# EAGLE library part ST7FLITE05Y0M6 (library ST Microelectronics)
Flash memory, data EEPROM, ADC, timers, SPI
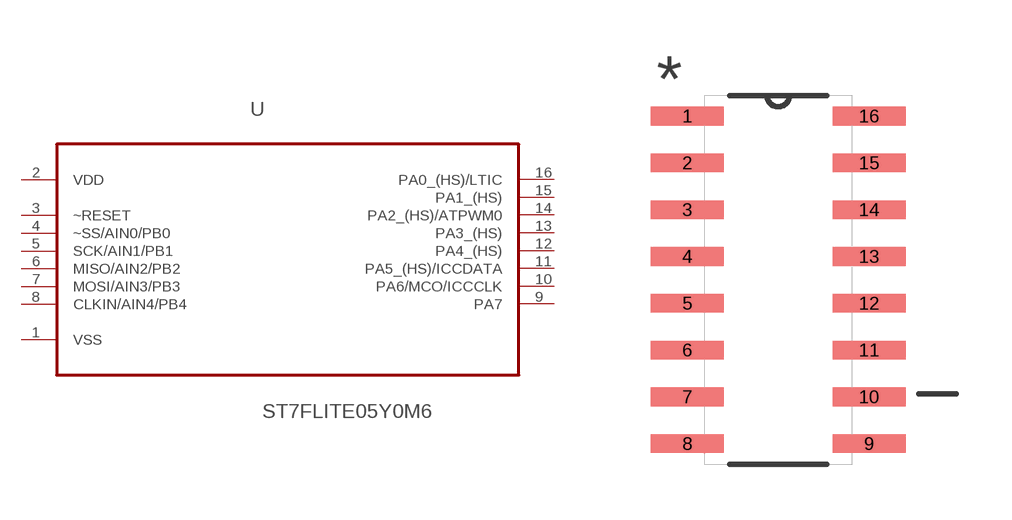
[diagram p315: symbol with the pads of SOIC127P600X175-16N; footprint SOIC127P600X175-16N]

Designator prefix U

## ST7FLITE05Y0M6 (MPN: ST7FLITE05Y0M6; OC_FARNELL: 1094451; OC_NEWARK: 57P2920; PACKAGE: SOIC-16; SUPPLIER: STMICROELECTRONICS)  [SOIC127P600X175-16N]
1  VSS  pas
2  VDD  pwr
3  ~RESET
4  ~SS/AIN0/PB0
5  SCK/AIN1/PB1
6  MISO/AIN2/PB2
7  MOSI/AIN3/PB3
8  CLKIN/AIN4/PB4
9  PA7
10  PA6/MCO/ICCCLK
11  PA5_(HS)/ICCDATA
12  PA4_(HS)
13  PA3_(HS)
14  PA2_(HS)/ATPWM0
15  PA1_(HS)
16  PA0_(HS)/LTIC

## Footprint SOIC127P600X175-16N (pad centres in mm)
smd 1.981 x 0.508: 1 -2.464,4.445; 2 -2.464,3.175; 3 -2.464,1.905; 4 -2.464,0.635; 5 -2.464,-0.635; 6 -2.464,-1.905; 7 -2.464,-3.175; 8 -2.464,-4.445; 9 2.464,-4.445; 10 2.464,-3.175; 11 2.464,-1.905; 12 2.464,-0.635; 13 2.464,0.635; 14 2.464,1.905; 15 2.464,3.175; 16 2.464,4.445